# Altium schematic symbol library 电子竞赛.SchLib: 5 symbols
Pins are listed as number, name and electrical type; pins without a type are passive.

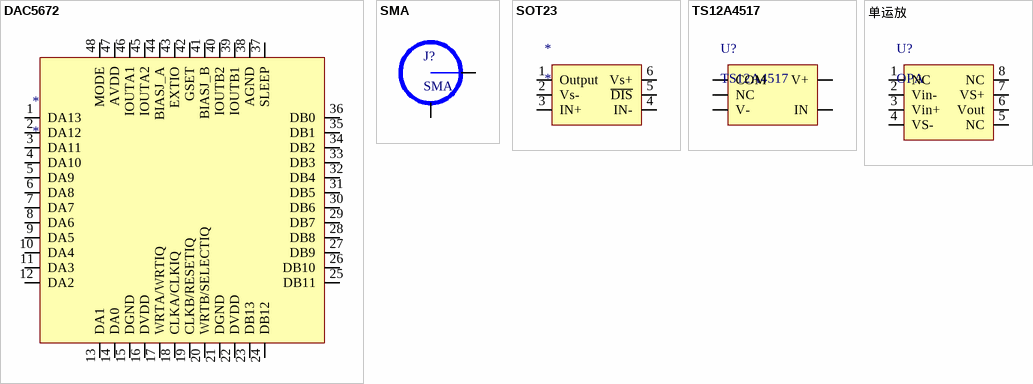
[diagram p0: symbols DAC5672 to 单运放]

## DAC5672
designator *
pins: 1 DA13, 2 DA12, 3 DA11, 4 DA10, 5 DA9, 6 DA8, 7 DA7, 8 DA6, 9 DA5, 10 DA4, 11 DA3, 12 DA2, 13 DA1, 14 DA0, 15 DGND, 16 DVDD, 17 WRTA/WRTIQ, 18 CLKA/CLKIQ , 19 CLKB/RESETIQ , 20 WRTB/SELECTIQ , 21 DGND, 22 DVDD, 23 DB13, 24 DB12, 25 DB11, 26 DB10, 27 DB9, 28 DB8, 29 DB7, 30 DB6, 31 DB5, 32 DB4, 33 DB3, 34 DB2, 35 DB1, 36 DB0, 37 SLEEP, 38 AGND, 39 IOUTB1, 40 IOUTB2, 41 BIASJ_B, 42 GSET, 43 EXTIO, 44 BIASJ_A, 45 IOUTA2, 46 IOUTA1, 47 AVDD, 48 MODE

## SMA
designator J?
pins: 1, 2

## SOT23
designator *
pins: 1 Output, 2 Vs-, 3 IN+, 4 IN-, 5 ~{DIS}, 6 Vs+

## TS12A4517
designator U?
pins: 1 COM, 2 NC, 3 V-, 4 IN, 5 V+

## 单运放
designator U?, comment OPA
pins: 1 NC, 2 Vin-, 3 Vin+, 4 VS-, 5 NC, 6 Vout, 7 VS+, 8 NC